# Altium schematic symbol library Evaluation Boards - Embedded - MCU, DSP.SchLib: 1 symbol
Pins are listed as number, name and electrical type; pins without a type are passive.

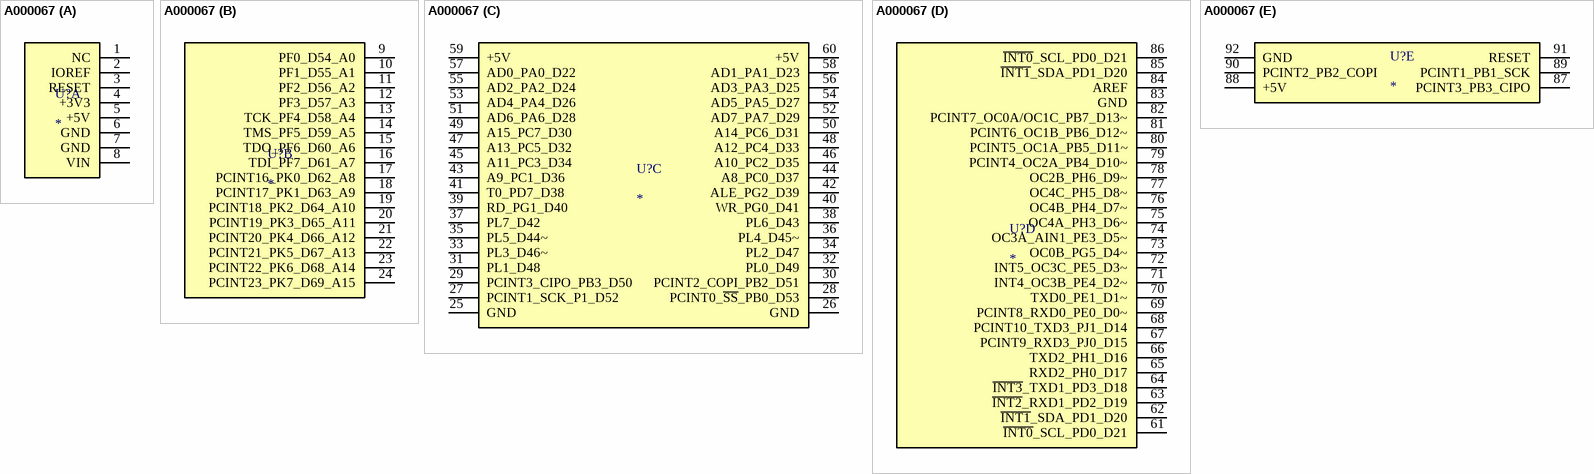
[diagram p0: symbol A000067]

## A000067
designator U?
ARDUINO MEGA2560 ATMEGA2560; Supplier 1: Digi-Key; Supplier 2: Farnell; Supplier 3: Mouser; Supplier 4: Arrow Electronics; Supplier Part Number 1: 1050-1018-ND; Supplier Part Number 2: 2212779; Supplier Part Number 3: 782-A000067; Supplier Part Number 4: A000067
footprint ARDUINO_A000067
part A pins: 1 NC, 2 IOREF, 3 RESET, 4 +3V3, 5 +5V, 6 GND, 7 GND, 8 VIN
part B pins: 9 PF0_D54_A0, 10 PF1_D55_A1, 11 PF2_D56_A2, 12 PF3_D57_A3, 13 TCK_PF4_D58_A4, 14 TMS_PF5_D59_A5, 15 TDO_PF6_D60_A6, 16 TDI_PF7_D61_A7, 17 PCINT16_PK0_D62_A8, 18 PCINT17_PK1_D63_A9, 19 PCINT18_PK2_D64_A10, 20 PCINT19_PK3_D65_A11, 21 PCINT20_PK4_D66_A12, 22 PCINT21_PK5_D67_A13, 23 PCINT22_PK6_D68_A14, 24 PCINT23_PK7_D69_A15
part C pins: 25 GND, 26 GND, 27 PCINT1_SCK_P1_D52, 28 PCINT0_~{SS}_PB0_D53, 29 PCINT3_CIPO_PB3_D50, 30 PCINT2_COPI_PB2_D51, 31 PL1_D48, 32 PL0_D49, 33 PL3_D46~, 34 PL2_D47, 35 PL5_D44~, 36 PL4_D45~, 37 PL7_D42, 38 PL6_D43, 39 RD_PG1_D40, 40 WR_PG0_D41, 41 T0_PD7_D38, 42 ALE_PG2_D39, 43 A9_PC1_D36, 44 A8_PC0_D37, 45 A11_PC3_D34, 46 A10_PC2_D35, 47 A13_PC5_D32, 48 A12_PC4_D33, 49 A15_PC7_D30, 50 A14_PC6_D31, 51 AD6_PA6_D28, 52 AD7_PA7_D29, 53 AD4_PA4_D26, 54 AD5_PA5_D27, 55 AD2_PA2_D24, 56 AD3_PA3_D25, 57 AD0_PA0_D22, 58 AD1_PA1_D23, 59 +5V, 60 +5V
part D pins: 61 ~{INT0}_SCL_PD0_D21, 62 ~{INT1}_SDA_PD1_D20, 63 ~{INT2}_RXD1_PD2_D19, 64 ~{INT3}_TXD1_PD3_D18, 65 RXD2_PH0_D17, 66 TXD2_PH1_D16, 67 PCINT9_RXD3_PJ0_D15, 68 PCINT10_TXD3_PJ1_D14, 69 PCINT8_RXD0_PE0_D0~, 70 TXD0_PE1_D1~, 71 INT4_OC3B_PE4_D2~, 72 INT5_OC3C_PE5_D3~, 73 OC0B_PG5_D4~, 74 OC3A_AIN1_PE3_D5~, 75 OC4A_PH3_D6~, 76 OC4B_PH4_D7~, 77 OC4C_PH5_D8~, 78 OC2B_PH6_D9~, 79 PCINT4_OC2A_PB4_D10~, 80 PCINT5_OC1A_PB5_D11~, 81 PCINT6_OC1B_PB6_D12~, 82 PCINT7_OC0A/OC1C_PB7_D13~, 83 GND, 84 AREF, 85 ~{INT1}_SDA_PD1_D20, 86 ~{INT0}_SCL_PD0_D21
part E pins: 87 PCINT3_PB3_CIPO, 88 +5V, 89 PCINT1_PB1_SCK, 90 PCINT2_PB2_COPI, 91 RESET, 92 GND